# Altium footprint library PDIP16.PcbLib: 1 footprints
Each footprint in its own frame and in the unit in brackets; x right, y up, seen from the top. Pads: shape width x height; smd on the part's side, far side on the other; paste and mask are expansions set on the pad; w line width, h text height; cw(c..) or ccw(c..) is an arc to the next point about the centre after c.
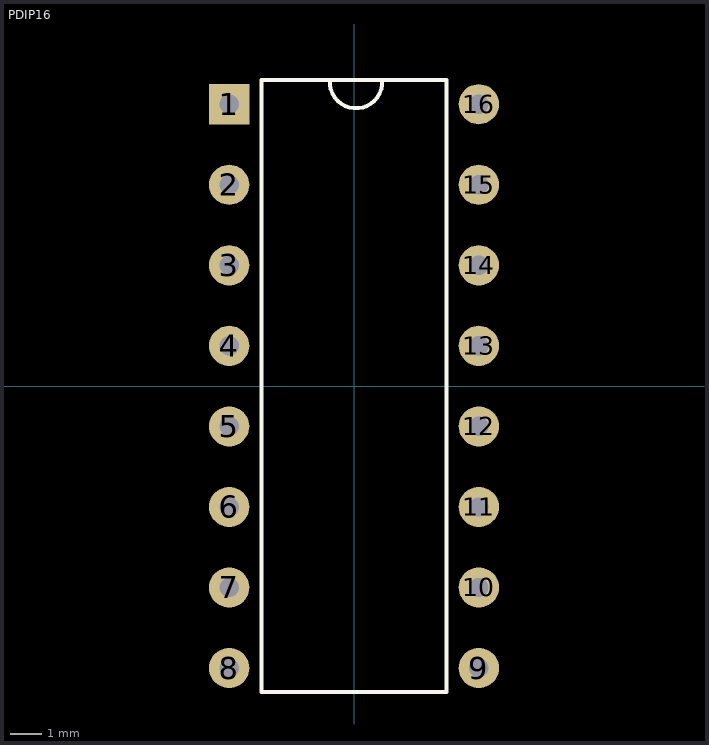
[diagram p0: the footprint, top view; thin cyan lines are the x and y axes]

## PDIP16 [mil]
pads (16):
  rect 50x50 hole 24: 1(-155,350)
  round 50 hole 24: 2(-155,250) 3(-155,150) 4(-155,50) 5(-155,-50) 6(-155,-150) 7(-155,-250) 8(-155,-350) 9(155,-350) 10(155,-250) 11(155,-150) 12(155,-50) 13(155,50) 14(155,150) 15(155,250) 16(155,350)
Top Overlay:
  lines w5: -30,380 ccw(c2.5,377.5) 35,380 ; -115,-380 115,-380 115,380 -115,380 -115,-380
3D body "DIP-16.step": height 200, standoff -162.5, extent -155.5,-380 155.5,380